# Altium footprint library BQ51013BRHLT.PcbLib: 1 footprints
Each footprint in its own frame and in the unit in brackets; x right, y up, seen from the top. Pads: shape width x height; smd on the part's side, far side on the other; paste and mask are expansions set on the pad; w line width, h text height; cw(c..) or ccw(c..) is an arc to the next point about the centre after c.
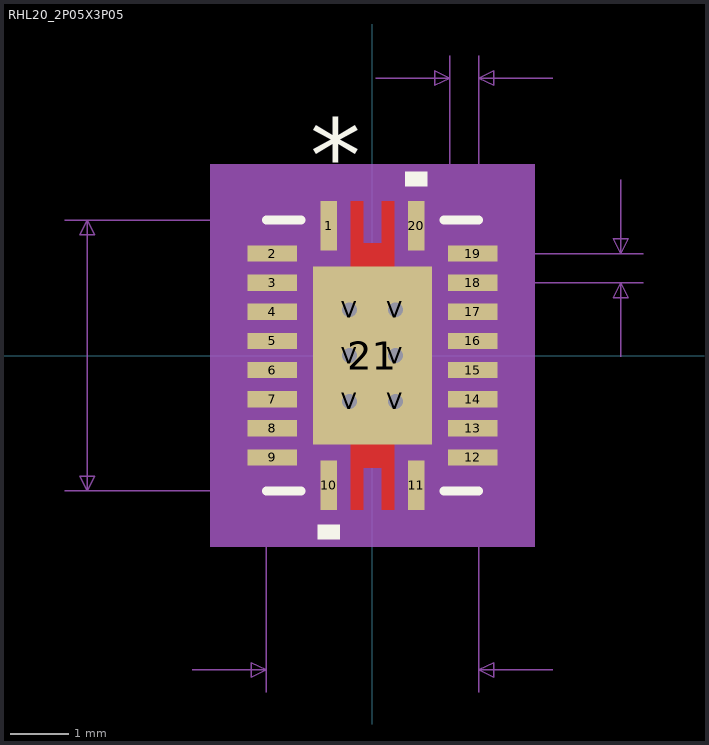
[diagram p0: the footprint, top view; thin cyan lines are the x and y axes]

## RHL20_2P05X3P05 [mm]
pads (27):
  rect 0.28x0.85 smd paste-0.14: 1(-0.75,2.225) 10(-0.75,-2.225) 11(0.75,-2.225) 20(0.75,2.225)
  rect 0.85x0.28 smd paste-0.14: 2(-1.725,1.75) 3(-1.725,1.25) 4(-1.725,0.75) 5(-1.725,0.25) 6(-1.725,-0.25) 7(-1.725,-0.75) 8(-1.725,-1.25) 9(-1.725,-1.75) 12(1.725,-1.75) 13(1.725,-1.25) 14(1.725,-0.75) 15(1.725,-0.25) 16(1.725,0.25) 17(1.725,0.75) 18(1.725,1.25) 19(1.725,1.75)
  rect 2.05x3.05 smd paste-1.512 mask-1.511: 21(0,0)
  round 0.508 hole 0.254: V(-0.394,-0.787) V(-0.394,0) V(-0.394,0.787) V(0.394,-0.787) V(0.394,0) V(0.394,0.787)
Top Layer:
  region: -0.375,1.525 0.375,1.525 0.375,2.65 0.16,2.65 0.16,1.925 -0.16,1.925 -0.16,2.65 -0.375,2.65
  region: -0.375,-1.525 0.375,-1.525 0.375,-2.65 0.16,-2.65 0.16,-1.925 -0.16,-1.925 -0.16,-2.65 -0.375,-2.65
Top Overlay:
  region: -0.56,-2.904 -0.941,-2.904 -0.941,-3.158 -0.56,-3.158
  region: 0.941,2.904 0.56,2.904 0.56,3.158 0.941,3.158
  lines w0.152: -1.825,-2.325 -1.223,-2.325 ; -1.825,2.325 -1.223,2.325 ; 1.223,-2.325 1.825,-2.325 ; 1.223,2.325 1.825,2.325
  text "*" at -1.068,2.802 h1.27
Top Paste:
  drawing of 36 lines, arcs and shapes, not listed
Top Solder:
  region: -1.23,1.96 -2.22,1.96 -2.22,1.54 -1.23,1.54
  region: -1.23,1.46 -2.22,1.46 -2.22,1.04 -1.23,1.04
  region: -1.23,0.96 -2.22,0.96 -2.22,0.54 -1.23,0.54
  region: -1.23,0.46 -2.22,0.46 -2.22,0.04 -1.23,0.04
  region: -1.23,-0.04 -2.22,-0.04 -2.22,-0.46 -1.23,-0.46
  region: -1.23,-0.54 -2.22,-0.54 -2.22,-0.96 -1.23,-0.96
  region: -1.23,-1.04 -2.22,-1.04 -2.22,-1.46 -1.23,-1.46
  region: -1.23,-1.54 -2.22,-1.54 -2.22,-1.96 -1.23,-1.96
  region: -0.54,-1.73 -0.96,-1.73 -0.96,-2.72 -0.54,-2.72
  region: 0.96,-1.73 0.54,-1.73 0.54,-2.72 0.96,-2.72
  region: 2.22,-1.54 1.23,-1.54 1.23,-1.96 2.22,-1.96
  region: 2.22,-1.04 1.23,-1.04 1.23,-1.46 2.22,-1.46
  region: 2.22,-0.54 1.23,-0.54 1.23,-0.96 2.22,-0.96
  region: 2.22,-0.04 1.23,-0.04 1.23,-0.46 2.22,-0.46
  region: 2.22,0.46 1.23,0.46 1.23,0.04 2.22,0.04
  region: 2.22,0.96 1.23,0.96 1.23,0.54 2.22,0.54
  region: 2.22,1.46 1.23,1.46 1.23,1.04 2.22,1.04
  region: 2.22,1.96 1.23,1.96 1.23,1.54 2.22,1.54
  region: 0.96,2.72 0.54,2.72 0.54,1.73 0.96,1.73
  region: -0.54,2.72 -0.96,2.72 -0.96,1.73 -0.54,1.73
  region: -0.375,1.525 0.375,1.525 0.375,2.65 0.16,2.65 0.16,1.925 -0.16,1.925 -0.16,2.65 -0.375,2.65
  region: -0.375,-1.525 0.375,-1.525 0.375,-2.65 0.16,-2.65 0.16,-1.925 -0.16,-1.925 -0.16,-2.65 -0.375,-2.65
  region: -1.088,0.987 -1.088,1.588 1.088,1.588 1.088,0.987
  region: -1.088,0.2 -1.088,0.587 1.088,0.587 1.088,0.2
  region: -1.088,-0.587 -1.088,-0.2 1.088,-0.2 1.088,-0.587
  region: -1.088,-1.588 -1.088,-0.987 1.088,-0.987 1.088,-1.588
  region: -1.088,-1.588 -1.088,1.588 -0.594,1.588 -0.594,-1.588
  region: 0.194,-1.588 0.194,1.588 -0.194,1.588 -0.194,-1.588
  region: 0.594,-1.588 0.594,1.588 1.088,1.588 1.088,-1.588
Mechanical 5:
  region: 2.785,-3.285 -2.785,-3.285 -2.785,3.285 2.785,3.285
Mechanical 7:
  lines w0.025: -5.281,-2.325 1.825,-2.325 ; -5.281,2.325 1.825,2.325 1.825,-5.781 ; -3.095,-5.4 -1.825,-5.4 ; -1.825,-5.781 -1.825,2.325 ; 0.055,4.765 1.325,4.765 ; 1.325,1.75 1.325,5.146 ; 1.725,1.25 4.646,1.25 ; 1.725,1.75 4.646,1.75 ; 1.825,1.75 1.825,5.146 ; 3.095,-5.4 1.825,-5.4 ; 3.095,4.765 1.825,4.765 ; 4.265,-0.02 4.265,1.25 ; 4.265,3.02 4.265,1.75 ; -4.9,-2.325 -4.9,2.325 ; -4.9,-2.325 -5.027,-2.071 -4.773,-2.071 -4.9,-2.325 ; -4.9,2.325 -5.027,2.071 -4.773,2.071 -4.9,2.325 ; -1.825,-5.4 -2.079,-5.273 -2.079,-5.527 -1.825,-5.4 ; 1.325,4.765 1.071,4.892 1.071,4.638 1.325,4.765 ; 1.825,-5.4 2.079,-5.273 2.079,-5.527 1.825,-5.4 ; 1.825,4.765 2.079,4.892 2.079,4.638 1.825,4.765 ; 4.265,1.25 4.138,0.996 4.392,0.996 4.265,1.25 ; 4.265,1.75 4.138,2.004 4.392,2.004 4.265,1.75
  text "Default Padstyle: RX11p02Y33p46D0T" at -10.795,-9.223 h1.27
  text "Heat Tab Padstyle: RX80p71Y120p08D0T" at -11.43,-10.747 h1.27
  text "Alt 1 Padstyle: OX60Y90D30P" at -8.572,-12.271 h1.27
  text "Alt 2 Padstyle: OX90Y60D30P" at -8.572,-13.795 h1.27
  text "1.968504E-02in/0.5mm" at 4.773,1.182 h0.64
  text "1.968504E-02in/0.5mm" at -1.6,5.273 h0.64
  text "0.1830709in/4.65mm" at -11.123,-0.318 h0.64
  text "0.1437008in/3.65mm" at -2.857,-6.543 h0.64
Mechanical 13:
  lines w0.025: -1.825,1.055 -0.555,2.325 ; -1.825,-2.325 1.825,-2.325 1.825,2.325 -1.825,2.325 -1.825,-2.325
  text "*" at -1.068,2.802 h1.27
Mechanical 15:
  region: 2.404,-2.904 -2.404,-2.904 -2.404,2.904 2.404,2.904
  lines w0.152: -2.404,-2.904 -2.404,2.904 2.404,2.904 2.404,-2.904 -2.404,-2.904
3D body: height 0.25, standoff 0, extent 0,0 0.254,0.254